# Altium schematic symbol library LT1799.SchLib: 1 symbol
Pins are listed as number, name and electrical type; pins without a type are passive.

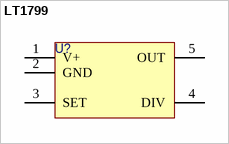
[diagram p0: symbol LT1799]

## LT1799
designator U?
pins: 1 V+ (power), 2 GND (power), 3 SET, 4 DIV, 5 OUT (power)